# EAGLE library part LDC1000 (library 1)
Inductance Sensor Serial
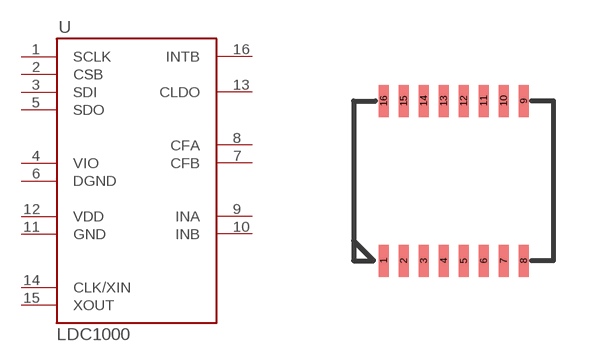
[diagram p7: symbol with the pads of SON-16; footprint SON-16]

Designator prefix U

## LDC1000  [SON-16]
1  SCLK
2  CSB
3  SDI
4  VIO
5  SDO
6  DGND
7  CFB
8  CFA
9  INA
10  INB
11  GND
12  VDD
13  CLDO
14  CLK/XIN
15  XOUT
16  INTB

## Footprint SON-16 (pad centres in mm)
smd 0.25 x 0.8: 1 -1.75,-2; 2 -1.25,-2; 3 -0.75,-2; 4 -0.25,-2; 5 0.25,-2; 6 0.75,-2; 7 1.25,-2; 8 1.75,-2; 9 1.75,2; 10 1.25,2; 11 0.75,2; 12 0.25,2; 13 -0.25,2; 14 -0.75,2; 15 -1.25,2; 16 -1.75,2